# EAGLE library part SD_CARD_0472192001 (library 0472192001_LEADFREE)
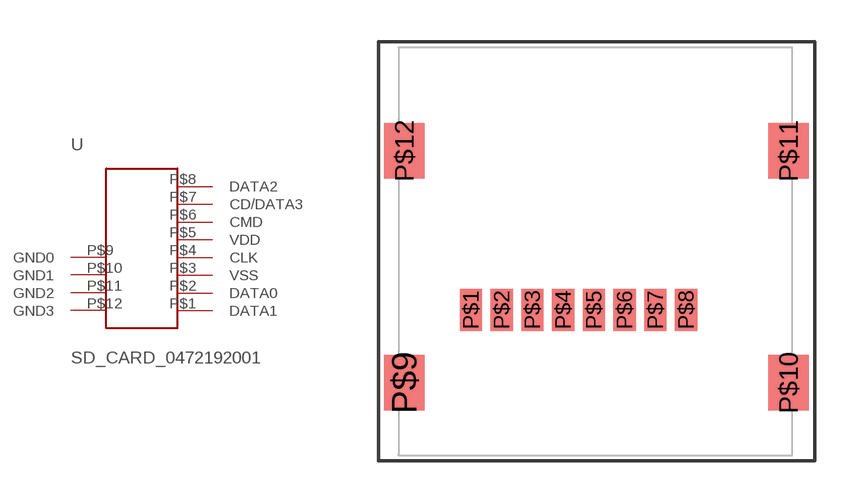
[diagram p0: symbol with the pads of 0472192001; footprint 0472192001]

Designator prefix -

## SD_CARD_0472192001  [0472192001]
P$1  DATA1
P$2  DATA0
P$3  VSS
P$4  CLK
P$5  VDD
P$6  CMD
P$7  CD/DATA3
P$8  DATA2
P$9  GND0
P$10  GND1
P$11  GND2
P$12  GND3

## Footprint 0472192001 (pad centres in mm)
smd 0.8 x 1.5: P$1 0,0; P$2 1.1,0; P$3 2.2,0; P$4 3.3,0; P$5 4.4,0; P$6 5.5,0; P$7 6.6,0; P$8 7.7,0
smd 1.45 x 2: P$9 -2.38,-2.6; P$10 11.37,-2.6; P$11 11.37,5.7; P$12 -2.38,5.7